# EAGLE library part XCR3256XL_TQ (library MAX9812)
Xilinx XCR3256XL 256 Macrocell CPLD Description: The XCR3256XL is a 3.3V, 256 macrocell CPLD targeted at power sensitive designs that require leading edge programmable logic solutions. A total of 16 function blocks provide 6,000 usable gates. Pin-to-pin propagation delays are 7.5 ns with a maximum system frequency of 154 MHz. Features Low power 3.3V 256 macrocell CPLD 7.5 ns pin-to-pin logic delays System frequencies up to 154 MHz 256 macrocells with 6,000 usable gates Available in small footprint packages - 144-pin TQFP (120 user I/O pins) - 208-pin PQFP (164 user I/O) - 256-ball FBGA (164 user I/O) - 280-ball CS BGA (164 user I/O) Optimized for 3.3V systems - Ultra low power operation - 5V tolerant I/O pins with 3.3V core supply - Advanced 0.35 micron five layer metal EEPROM process - Fast Zero Power? (FZP) CMOS design technology - 3.3V PCI electrical specification compatible outputs (no internal clamp diode on any input or I/O) Advanced system features - In-system programming - Input registers - Predictable timing model - Up to 23 clocks available per function block - Excellent pin retention during design changes - Full IEEE Standard 1149.1 boundary-scan (JTAG) - Four global clocks - Eight product term control terms per function block Fast ISP programming times Port Enable pin for additional I/O 2.7V to 3.6V supply voltage at industrial grade voltage range Programmable slew rate control per output Security bit prevents unauthorized access Refer to XPLA3 family data sheet (DS012) for architecture description Please send any comments to: messi@users.sourceforge.net
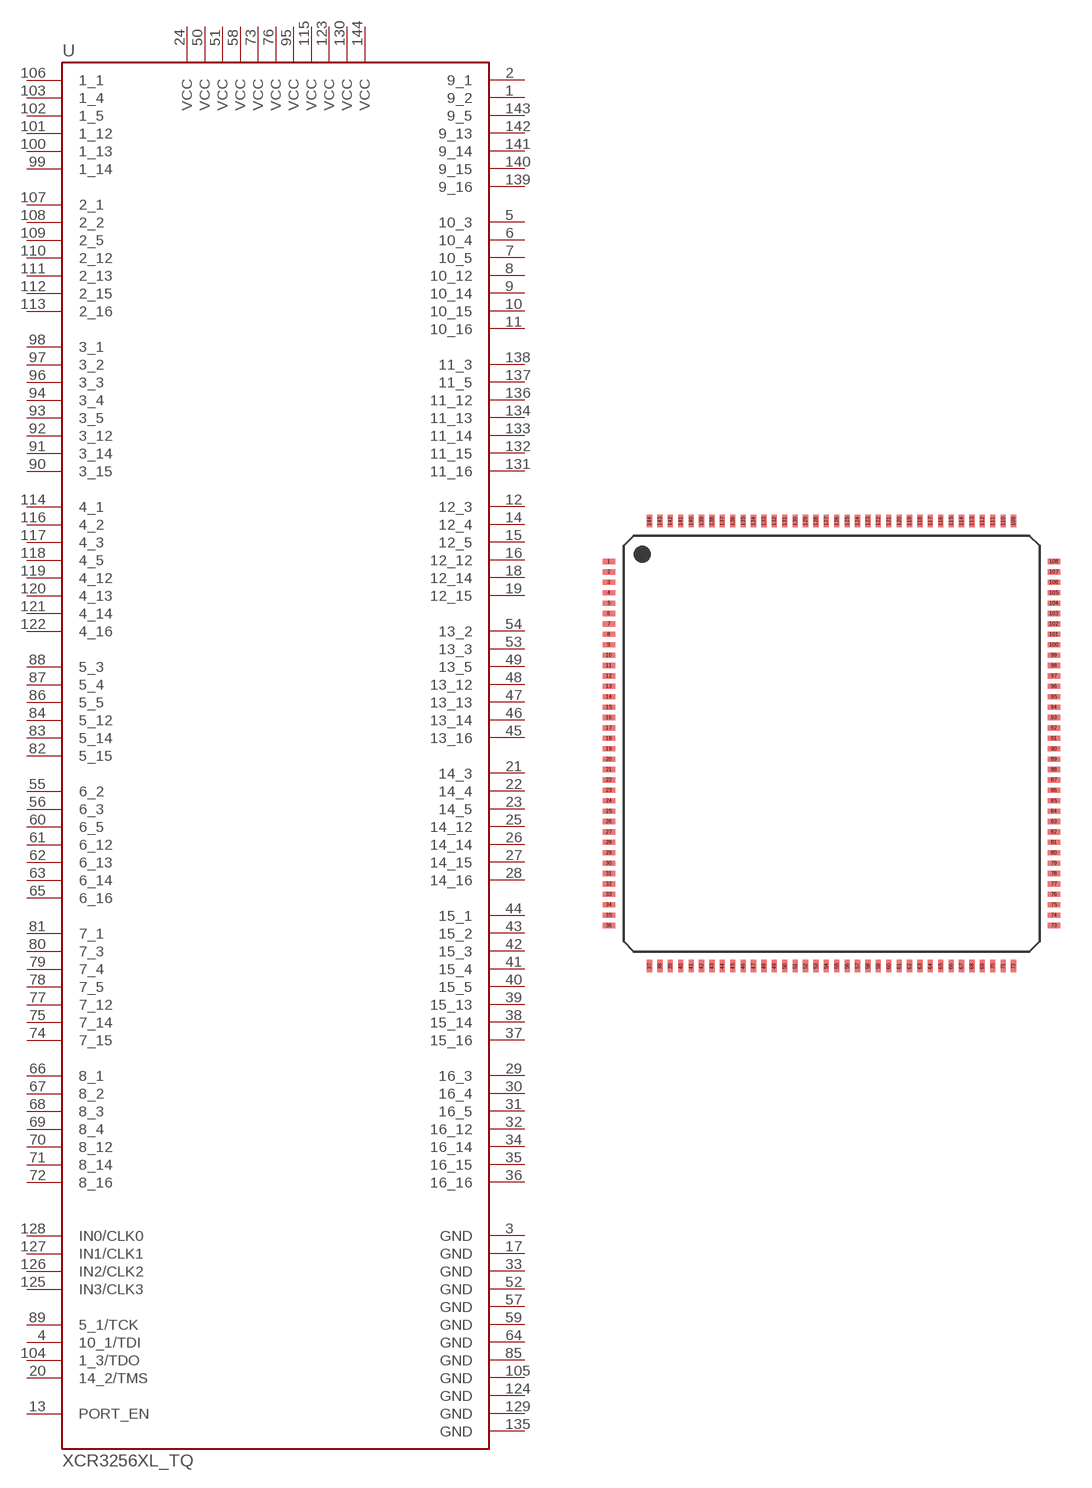
[diagram p136: symbol with the pads of TQFP144; footprint TQFP144]

Designator prefix U

## XCR3256XL_TQ  [TQFP144]
1  9_2
2  9_1
3  GND  pwr
4  10_1/TDI
5  10_3
6  10_4
7  10_5
8  10_12
9  10_14
10  10_15
11  10_16
12  12_3
13  PORT_EN  in
14  12_4
15  12_5
16  12_12
17  GND  pwr
18  12_14
19  12_15
20  14_2/TMS
21  14_3
22  14_4
23  14_5
24  VCC  pwr
25  14_12
26  14_14
27  14_15
28  14_16
29  16_3
30  16_4
31  16_5
32  16_12
33  GND  pwr
34  16_14
35  16_15
36  16_16
37  15_16
38  15_14
39  15_13
40  15_5
41  15_4
42  15_3
43  15_2
44  15_1
45  13_16
46  13_14
47  13_13
48  13_12
49  13_5
50  VCC  pwr
51  VCC  pwr
52  GND  pwr
53  13_3
54  13_2
55  6_2
56  6_3
57  GND  pwr
58  VCC  pwr
59  GND  pwr
60  6_5
61  6_12
62  6_13
63  6_14
64  GND  pwr
65  6_16
66  8_1
67  8_2
68  8_3
69  8_4
70  8_12
71  8_14
72  8_16
73  VCC  pwr
74  7_15
75  7_14
76  VCC  pwr
77  7_12
78  7_5
79  7_4
80  7_3
81  7_1
82  5_15
83  5_14
84  5_12
85  GND  pwr
86  5_5
87  5_4
88  5_3
89  5_1/TCK
90  3_15
91  3_14
92  3_12
93  3_5
94  3_4
95  VCC  pwr
96  3_3
97  3_2
98  3_1
99  1_14
100  1_13
101  1_12
102  1_5
103  1_4
104  1_3/TDO
105  GND  pwr
106  1_1
107  2_1
108  2_2
109  2_5
110  2_12
111  2_13
112  2_15
113  2_16
114  4_1
115  VCC  pwr
116  4_2
117  4_3
118  4_5
119  4_12
120  4_13
121  4_14
122  4_16
123  VCC  pwr
124  GND  pwr
125  IN3/CLK3
126  IN2/CLK2
127  IN1/CLK1
128  IN0/CLK0
129  GND  pwr
130  VCC  pwr
131  11_16
132  11_15
133  11_14
134  11_13
135  GND  pwr
136  11_12
137  11_5
138  11_3
139  9_16
140  9_15
141  9_14
142  9_13
143  9_5
144  VCC  pwr

## Footprint TQFP144 (pad centres in mm)
TQFP (TQ/TQG 100, 144, 176 Pin) Packages and Heat Sink TQFP (HT/HTG 100, 144, 176 Pin) Packages - Pitch: 0.5 mm - Pad-length : 0.6mm - Pad-Width : 0.22mm (0.25) Please send any comments to: messi@users.sourceforge.net
smd 0.6 x 0.25: 1 -10.7,8.75; 2 -10.7,8.25; 3 -10.7,7.75; 4 -10.7,7.25; 5 -10.7,6.75; 6 -10.7,6.25; 7 -10.7,5.75; 8 -10.7,5.25; 9 -10.7,4.75; 10 -10.7,4.25; 11 -10.7,3.75; 12 -10.7,3.25; 13 -10.7,2.75; 14 -10.7,2.25; 15 -10.7,1.75; 16 -10.7,1.25; 17 -10.7,0.75; 18 -10.7,0.25; 19 -10.7,-0.25; 20 -10.7,-0.75; 21 -10.7,-1.25; 22 -10.7,-1.75; 23 -10.7,-2.25; 24 -10.7,-2.75; 25 -10.7,-3.25; 26 -10.7,-3.75; 27 -10.7,-4.25; 28 -10.7,-4.75; 29 -10.7,-5.25; 30 -10.7,-5.75; 31 -10.7,-6.25; 32 -10.7,-6.75; 33 -10.7,-7.25; 34 -10.7,-7.75; 35 -10.7,-8.25; 36 -10.7,-8.75; 73 10.7,-8.75; 74 10.7,-8.25; 75 10.7,-7.75; 76 10.7,-7.25; 77 10.7,-6.75; 78 10.7,-6.25; 79 10.7,-5.75; 80 10.7,-5.25; 81 10.7,-4.75; 82 10.7,-4.25; 83 10.7,-3.75; 84 10.7,-3.25; 85 10.7,-2.75; 86 10.7,-2.25; 87 10.7,-1.75; 88 10.7,-1.25; 89 10.7,-0.75; 90 10.7,-0.25; 91 10.7,0.25; 92 10.7,0.75; 93 10.7,1.25; 94 10.7,1.75; 95 10.7,2.25; 96 10.7,2.75; 97 10.7,3.25; 98 10.7,3.75; 99 10.7,4.25; 100 10.7,4.75; 101 10.7,5.25; 102 10.7,5.75; 103 10.7,6.25; 104 10.7,6.75; 105 10.7,7.25; 106 10.7,7.75; 107 10.7,8.25; 108 10.7,8.75
smd 0.25 x 0.6: 37 -8.75,-10.7; 38 -8.25,-10.7; 39 -7.75,-10.7; 40 -7.25,-10.7; 41 -6.75,-10.7; 42 -6.25,-10.7; 43 -5.75,-10.7; 44 -5.25,-10.7; 45 -4.75,-10.7; 46 -4.25,-10.7; 47 -3.75,-10.7; 48 -3.25,-10.7; 49 -2.75,-10.7; 50 -2.25,-10.7; 51 -1.75,-10.7; 52 -1.25,-10.7; 53 -0.75,-10.7; 54 -0.25,-10.7; 55 0.25,-10.7; 56 0.75,-10.7; 57 1.25,-10.7; 58 1.75,-10.7; 59 2.25,-10.7; 60 2.75,-10.7; 61 3.25,-10.7; 62 3.75,-10.7; 63 4.25,-10.7; 64 4.75,-10.7; 65 5.25,-10.7; 66 5.75,-10.7; 67 6.25,-10.7; 68 6.75,-10.7; 69 7.25,-10.7; 70 7.75,-10.7; 71 8.25,-10.7; 72 8.75,-10.7; 109 8.75,10.7; 110 8.25,10.7; 111 7.75,10.7; 112 7.25,10.7; 113 6.75,10.7; 114 6.25,10.7; 115 5.75,10.7; 116 5.25,10.7; 117 4.75,10.7; 118 4.25,10.7; 119 3.75,10.7; 120 3.25,10.7; 121 2.75,10.7; 122 2.25,10.7; 123 1.75,10.7; 124 1.25,10.7; 125 0.75,10.7; 126 0.25,10.7; 127 -0.25,10.7; 128 -0.75,10.7; 129 -1.25,10.7; 130 -1.75,10.7; 131 -2.25,10.7; 132 -2.75,10.7; 133 -3.25,10.7; 134 -3.75,10.7; 135 -4.25,10.7; 136 -4.75,10.7; 137 -5.25,10.7; 138 -5.75,10.7; 139 -6.25,10.7; 140 -6.75,10.7; 141 -7.25,10.7; 142 -7.75,10.7; 143 -8.25,10.7; 144 -8.75,10.7